# EAGLE library part ADS1115 (library ADS1115)
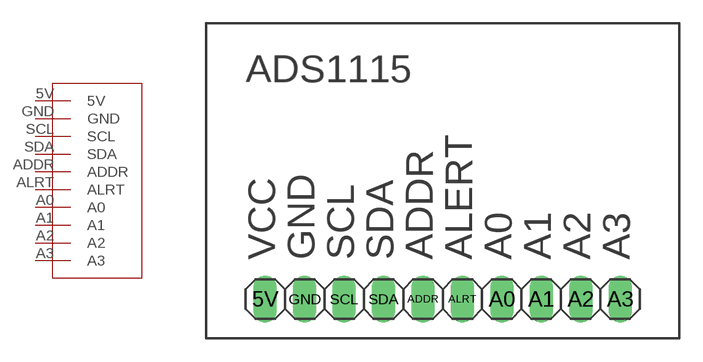
[diagram p0: symbol with the pads of ADS1115; footprint ADS1115]

Designator prefix -

## ADS1115  [ADS1115]
5V  5V
A0  A0
A1  A1
A2  A2
A3  A3
ADDR  ADDR
ALRT  ALRT
GND  GND
SCL  SCL
SDA  SDA

## Footprint ADS1115 (pad centres in mm)
PIN HEADER
drill 1.016 long: 5V -11.43,-7.62; A0 3.81,-7.62; A1 6.35,-7.62; A2 8.89,-7.62; A3 11.43,-7.62; ADDR -1.27,-7.62; ALRT 1.27,-7.62; GND -8.89,-7.62; SCL -6.35,-7.62; SDA -3.81,-7.62